# Altium schematic symbol library ATFC-0201HQ-2N0B-T.SchLib: 1 symbol
Pins are listed as number, name and electrical type; pins without a type are passive.

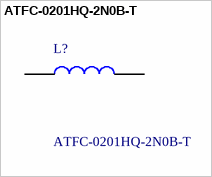
[diagram p0: symbol ATFC-0201HQ-2N0B-T]

## ATFC-0201HQ-2N0B-T
designator L?
2 nH Unshielded Thin Film Inductor 500 mA 200mOhm Max 0201 (0603 Metric); Manufacturer_Name: ABRACON; Geometry.Height: 0.28mm; Manufacturer_Part_Number: ATFC-0201HQ-2N0B-T; Mouser Part Number: *; Mouser Price/Stock: *; Arrow Part Number: *; Arrow Price/Stock: *; Datasheet Link: https://abracon.com/Magnetics/inductors/ATFC-0201HQ.pdf
footprint INDC0603X28N
pins: 1, 2